# Altium schematic symbol library uSD.SCHLIB: 1 symbol
Pins are listed as number, name and electrical type; pins without a type are passive.

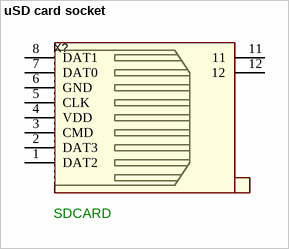
[diagram p0: symbol uSD card socket]

## uSD card socket
designator X?, comment SDCARD
In Stock: 0; Type: Connectors; Price: 0.00; Supplier: Rusar; Supplier PN: xxx
footprint mSD_TF_push
pins: 1 DAT2, 2 DAT3, 3 CMD, 4 VDD, 5 CLK, 6 GND, 7 DAT0, 8 DAT1, 11, 12